# EAGLE library part SMALL_MAVRIC_POWER_TPS63060 (library small_mavric)
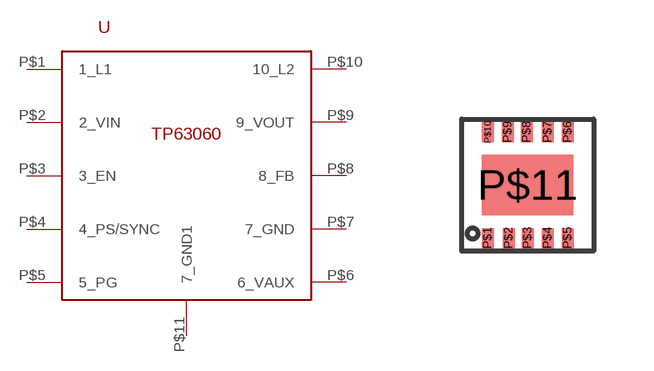
[diagram p3: symbol with the pads of SMALL_MAVRIC_POWER_PWSON; footprint SMALL_MAVRIC_POWER_PWSON]

Designator prefix -

## SMALL_MAVRIC_POWER_TPS63060 (DISTRIBUTOR: mouser; ORDER_CODE: 595-TPS63060DSCT; PLACE_PART: YES)  [SMALL_MAVRIC_POWER_PWSON]
P$1  1_L1
P$2  2_VIN
P$3  3_EN
P$4  4_PS/SYNC
P$5  5_PG
P$6  6_VAUX
P$7  7_GND
P$8  8_FB
P$9  9_VOUT
P$10  10_L2
P$11  7_GND1

## Footprint SMALL_MAVRIC_POWER_PWSON (pad centres in mm)
smd 0.3 x 0.5: P$1 -1,-1.325; P$2 -0.475,-1.325; P$3 0,-1.325; P$4 0.5,-1.325; P$5 1,-1.325; P$6 1,1.325; P$7 0.5,1.325; P$8 -0.025,1.325; P$9 -0.5,1.325; P$10 -1,1.325
smd 2.286 x 1.524: P$11 0,0